# EAGLE library part OPA4330 (library parts)
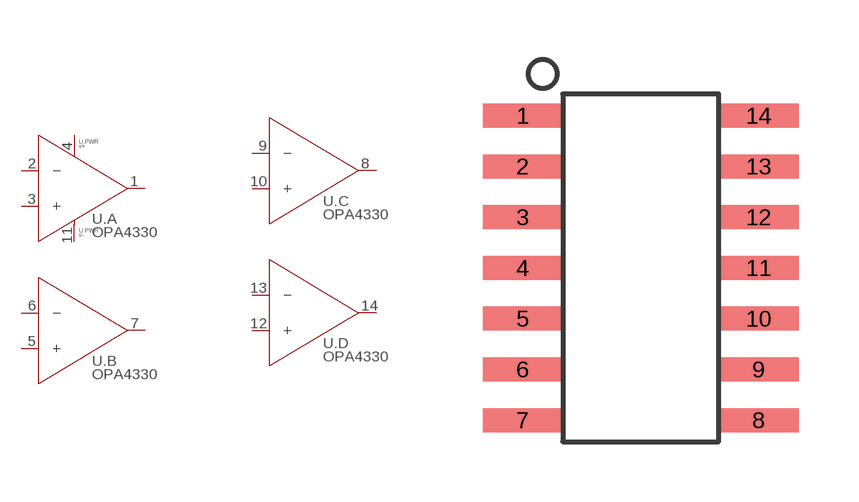
[diagram p23: symbol with the pads of SOIC-14; footprint SOIC-14]

Designator prefix U; gates .PWR=OPAMP-PWR .A=OPAMP-1 .B=OPAMP-1 .C=OPAMP-1 .D=OPAMP-1

## OPA4330  [SOIC-14]
1  .A:OUT  out
2  .A:-  pas
3  .A:+  pas
4  .PWR:V+  pwr
5  .B:+  pas
6  .B:-  pas
7  .B:OUT  out
8  .C:OUT  out
9  .C:-  pas
10  .C:+  pas
11  .PWR:V-  pwr
12  .D:+  pas
13  .D:-  pas
14  .D:OUT  out

## Footprint SOIC-14 (pad centres in mm)
smd 2 x 0.6: 1 -2.95,3.81; 2 -2.95,2.54; 3 -2.95,1.27; 4 -2.95,0; 5 -2.95,-1.27; 6 -2.95,-2.54; 7 -2.95,-3.81; 8 2.95,-3.81; 9 2.95,-2.54; 10 2.95,-1.27; 11 2.95,0; 12 2.95,1.27; 13 2.95,2.54; 14 2.95,3.81